# Altium footprint library Converters and Regulators.PcbLib: 6 footprints
Each footprint in its own frame and in the unit in brackets; x right, y up, seen from the top. Pads: shape width x height; smd on the part's side, far side on the other; paste and mask are expansions set on the pad; w line width, h text height; cw(c..) or ccw(c..) is an arc to the next point about the centre after c.
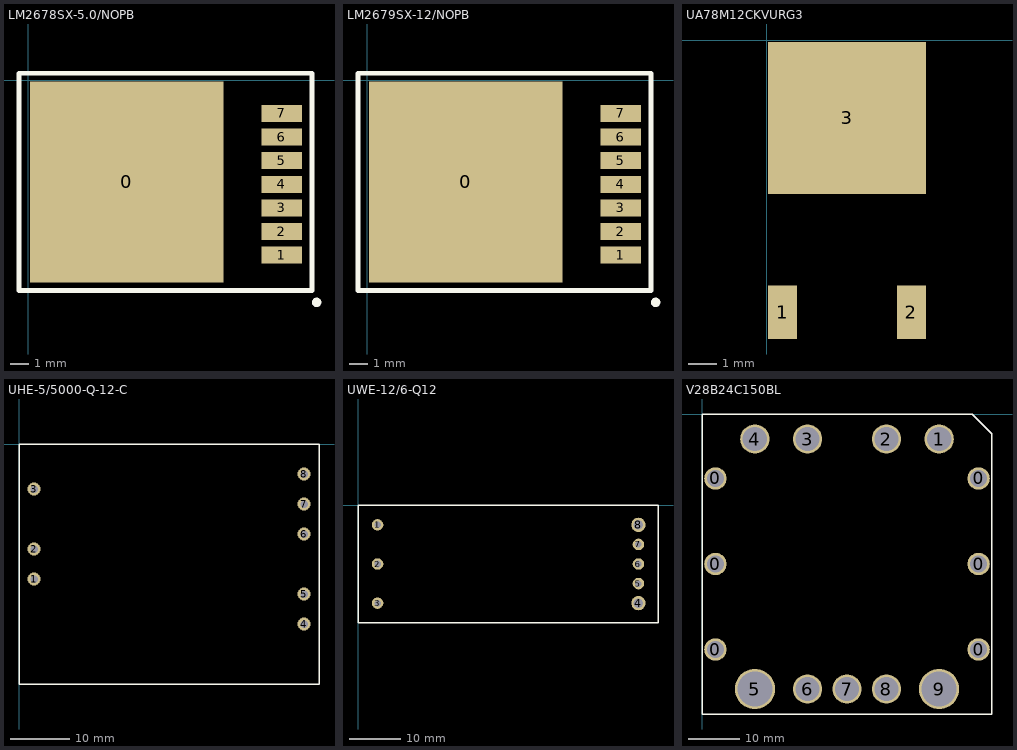
[diagram p0: the footprints below, top view; thin cyan lines are the x and y axes]

## LM2678SX-5.0/NOPB [mil] "5V Switching Regulator, 5A"
pads (8):
  rect 410x425 smd: 0(208,-215)
  rect 85x36 smd: 1(536,-370) 2(536,-320) 3(536,-270) 4(536,-220) 5(536,-170) 6(536,-120) 7(536,-70)
Top Overlay:
  circle w10: c610,-470 r5
  lines w10: -20,-445 -20,15 600,15 600,-445 -20,-445
3D body: height 179.92, standoff 0, extent -19,-445 600,15

## LM2679SX-12/NOPB [mil] "12V Switching Regulator, 5A"
pads (8):
  rect 410x425 smd: 0(208,-215)
  rect 85x36 smd: 1(536,-370) 2(536,-320) 3(536,-270) 4(536,-220) 5(536,-170) 6(536,-120) 7(536,-70)
Top Overlay:
  circle w10: c610,-470 r5
  lines w10: -20,-445 -20,15 600,15 600,-445 -20,-445
3D body: height 179.92, standoff 0, extent -20,-445 600,15

## UA78M12CKVURG3 [mil] "12V Regulator"
pads (3):
  rect 40x74 smd mask+2: 1(22,-375) 2(200,-375)
  rect 218x210 smd mask+2: 3(111,-107)

## UHE-5/5000-Q-12-C [mil] "5V DCDC"
height 400
pads (8):
  round 88 hole 50: 1(100,-900) 2(100,-700) 3(100,-300) 4(1900,-1200) 5(1900,-1000) 6(1900,-600) 7(1900,-400) 8(1900,-200)
Top Overlay:
  lines w10: 0,-1600 0,0 2000,0 2000,-1600 0,-1600
3D body: height 401.57, standoff 0, extent 0,-1600 2000,0

## UWE-12/6-Q12 [mil] "12V DCDC"
pads (8):
  round 88 hole 50: 1(150,-150) 2(150,-450) 3(150,-750) 5(2150,-600) 6(2150,-450) 7(2150,-300)
  round 110 hole 72: 4(2150,-750) 8(2150,-150)
Top Overlay:
  lines w10: 0,-900 2300,-900 2300,0 0,0 0,-900
3D body: height 503.94, standoff 0, extent 0,-900 2300,0

## V28B24C150BL [mil] "24V DCDC"
pads (15):
  round 170 hole 129: 0(100,-1790) 0(100,-1140) 0(100,-490) 0(2100,-1790) 0(2100,-1140) 0(2100,-490)
  round 223 hole 185: 1(1800,-190) 2(1400,-190) 3(800,-190) 4(400,-190) 6(800,-2090) 7(1100,-2090) 8(1400,-2090)
  round 306 hole 268: 5(400,-2090) 9(1800,-2090)
Top Overlay:
  lines w10: 0,-2280 2200,-2280 2200,-150 2050,0 0,0 0,-2280
3D body: height 547.24, standoff 0, extent 0,-2275 2200,0